# Altium schematic symbol library PERCRO_schematic.SchLib: 169 symbols (part 2 of 2)
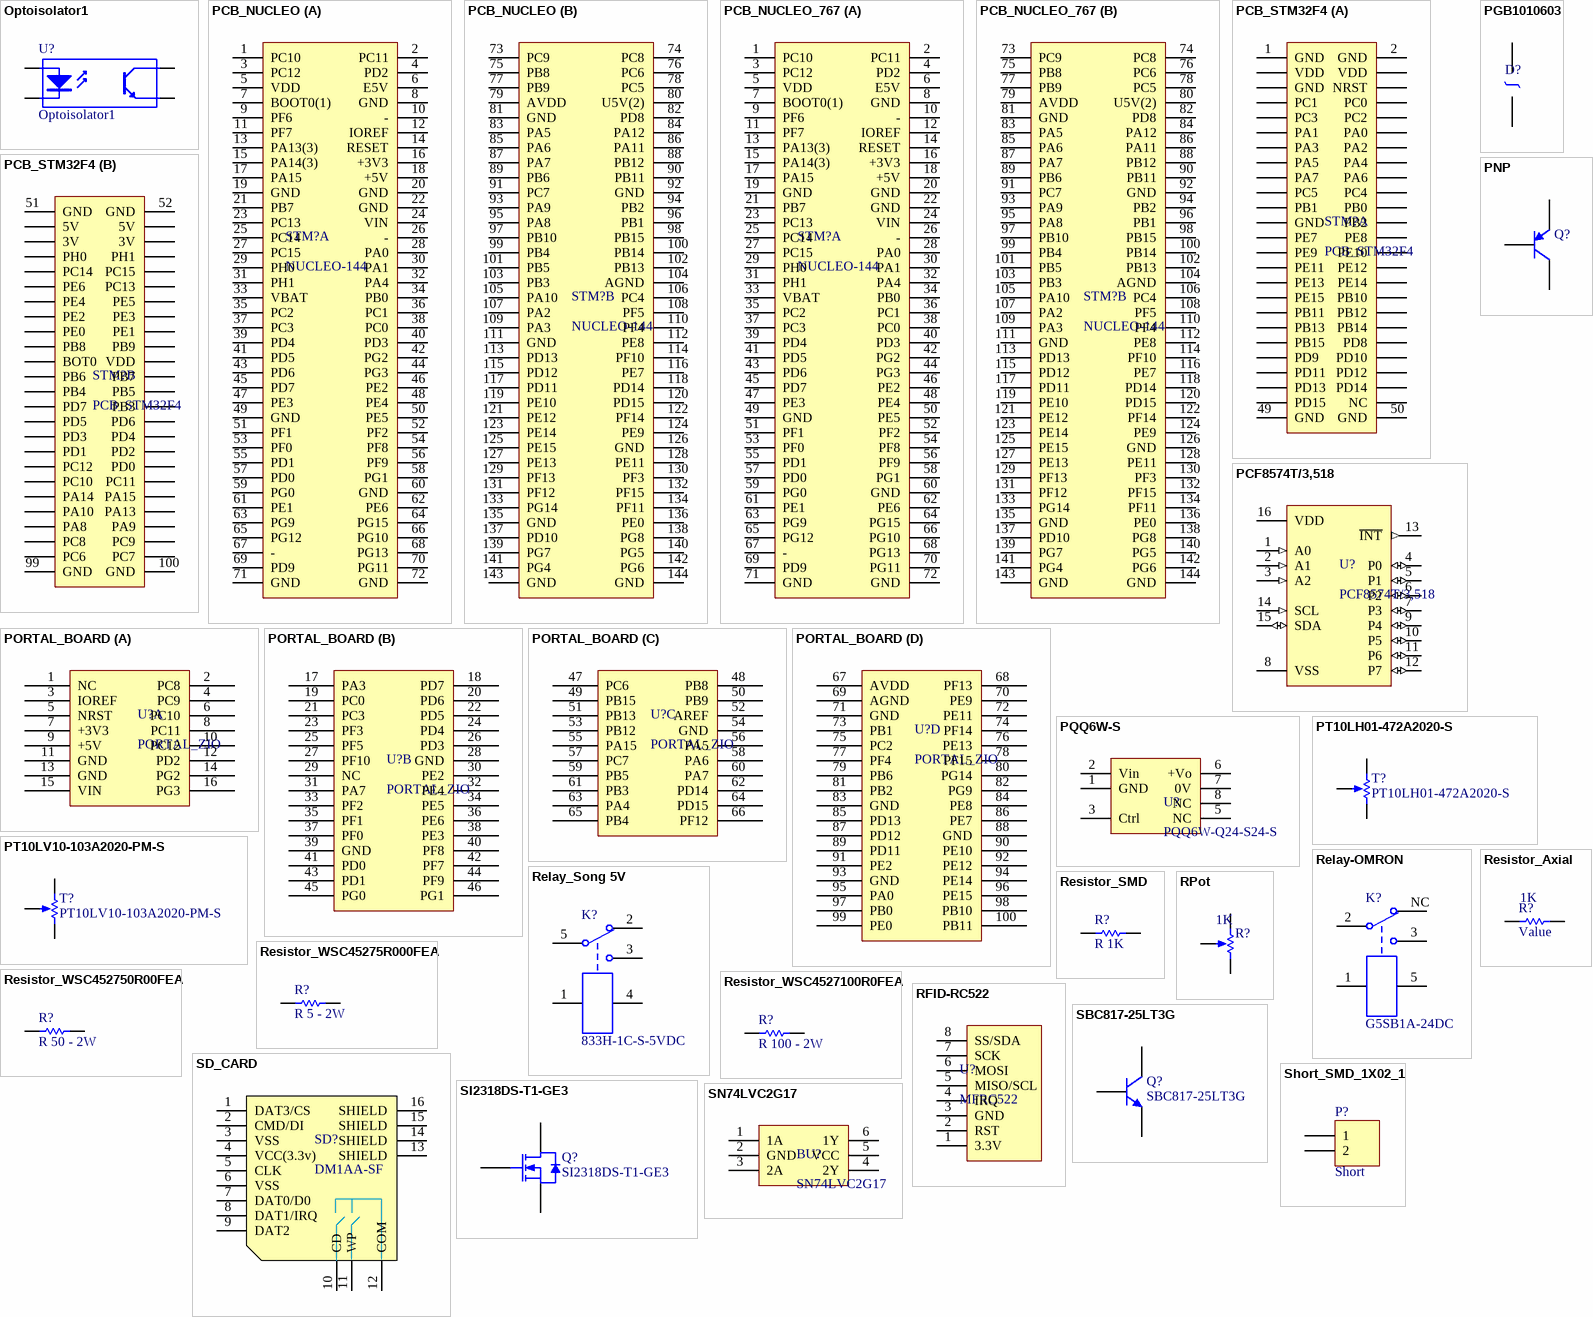
[diagram p6: symbols Optoisolator1 to SN74LVC2G17]

## SD_CARD
designator SD?, comment DM1AA-SF
SD Memory Card Connector; Manufacturer: Hirose; Manufacturer Code: DM1AA-SF-PEJ(72); HelpURL: C:\Varios\PERCRO_DATASHEET\DM1_SD_CARD.pdf
footprint SD_CARD (SMD_SD_CARD)
pins: 1 DAT3/CS, 2 CMD/DI, 3 VSS, 4 VCC(3.3v), 5 CLK, 6 VSS, 7 DAT0/D0, 8 DAT1/IRQ, 9 DAT2, 10 CD, 11 WP, 12 COM, 13 SHIELD, 14 SHIELD, 15 SHIELD, 16 SHIELD

## Short_SMD_1X02_1
designator P?, comment Short
Header, 2-Pin
signal-integrity model Connector
footprint SHORT_SMD_1x2_2 (Header SMD, 2-Pin, 2mm Pitch)
pins: 1, 2

## SI2318DS-T1-GE3
designator Q?
N-Channel MOSFET 40V - 3A; Manufacturer: Vishay Semiconductors; Value: 40V - 3A; HelpURL: C:\Varios\PERCRO_DATASHEET\SI2318DS-T1-GE3.pdf; Manufacturer Code: SI2318DS-T1-GE3
footprint SOT-23
pins: 1 G, 2 S, 3 D

## SN74LVC2G17
designator BU?
Dual Schmitt-Trigger Buffer; Manufacturer: Texas Instruments; Manufacturer Code: SN74LVC2G17DCK; HelpURL: C:\Varios\PERCRO_DATASHEET\SN74LVC2G17.pdf
footprint DCK (Small-Outline Package (SOP))
pins: 1 1A, 2 GND, 3 2A, 4 2Y, 5 VCC, 6 1Y

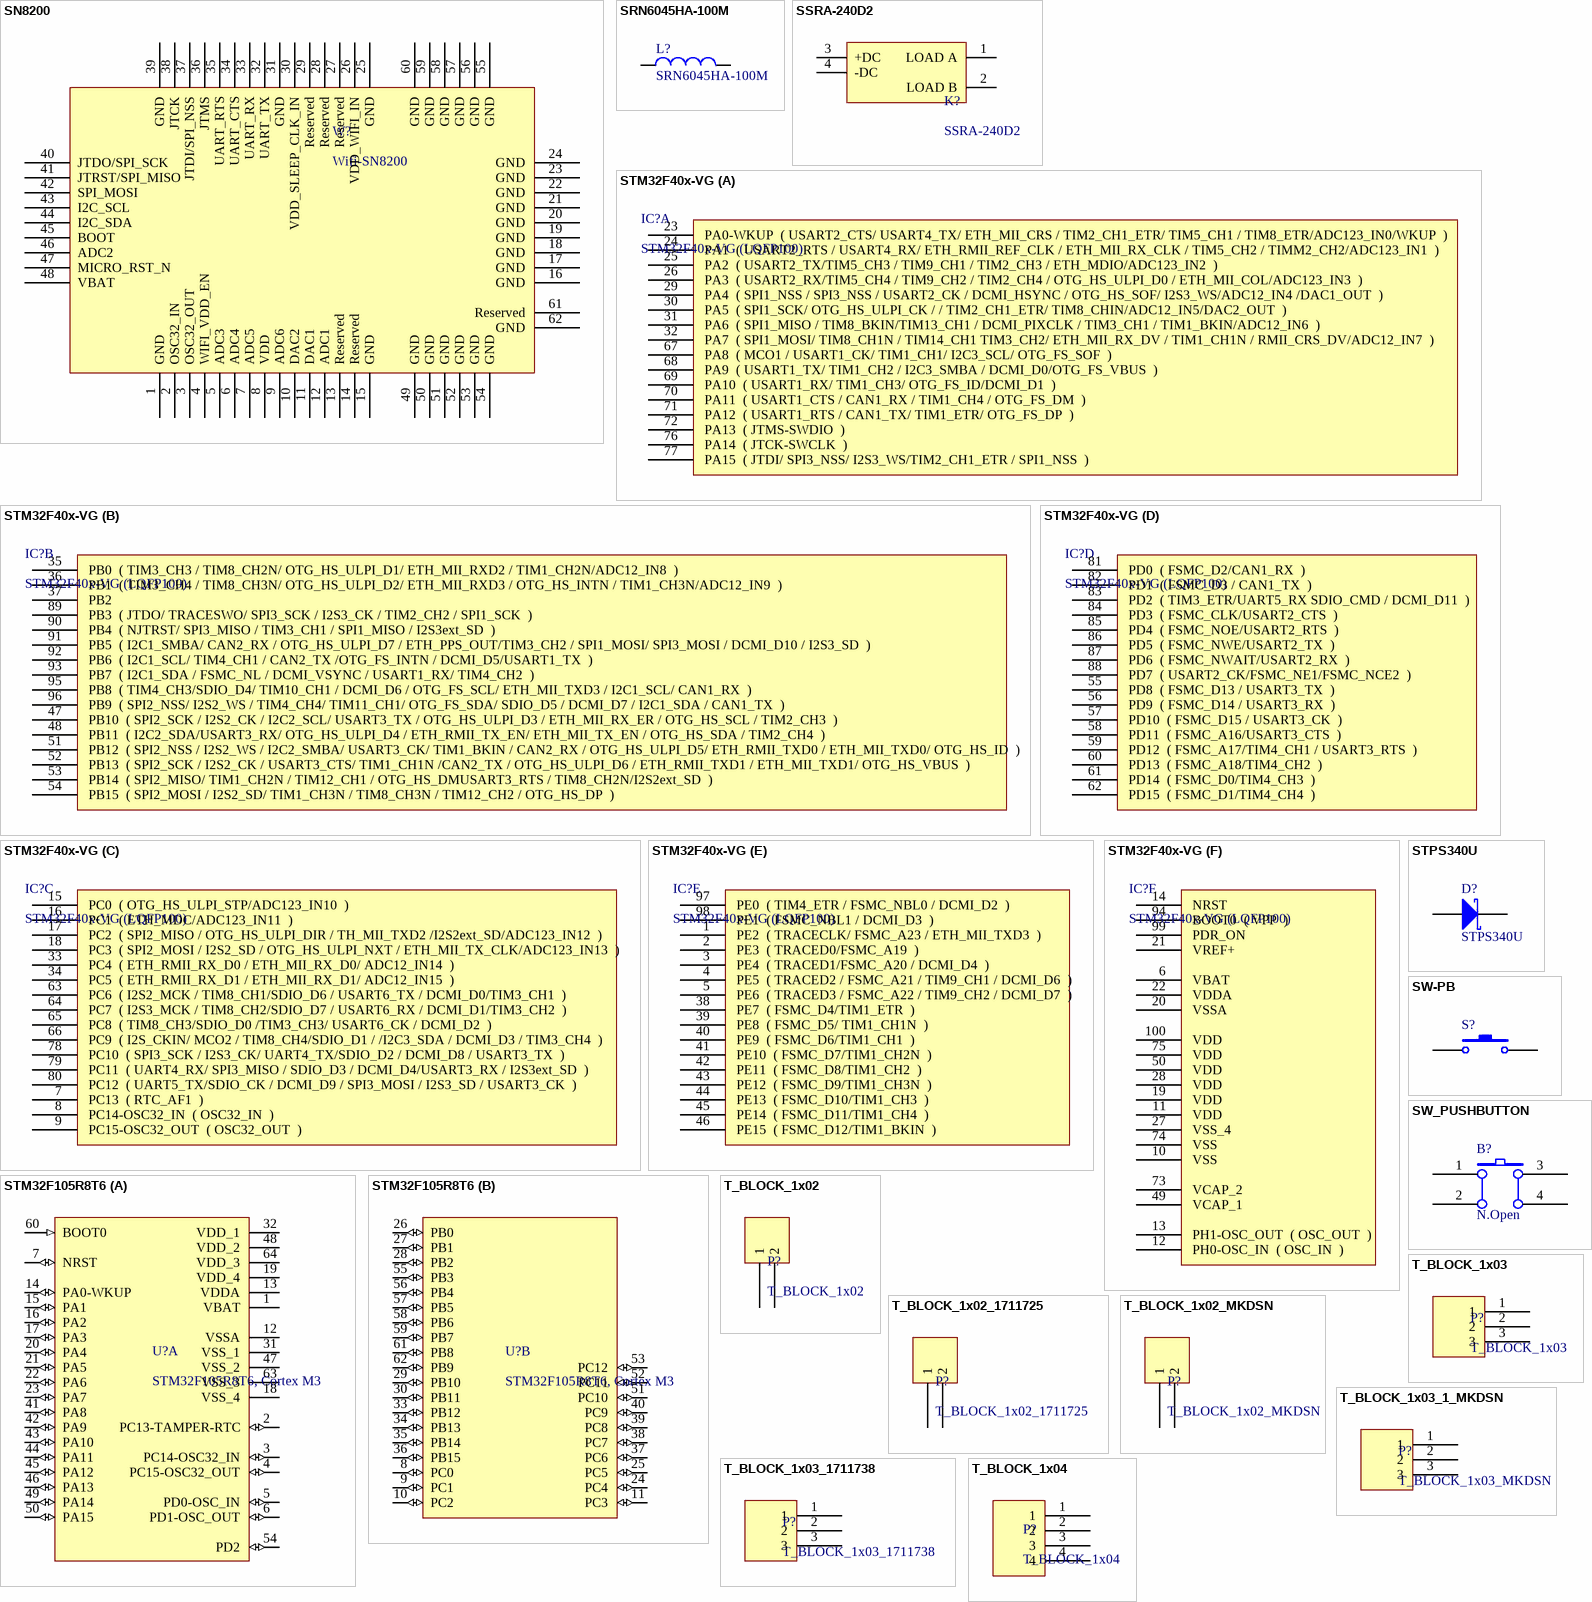
[diagram p4: symbols SN8200 to T_BLOCK_1x04]

## SN8200
designator W?, comment Wifi-SN8200
Wifi module SN8200; Manufacturer: MURATA; HelpURL: C:\Varios\PERCRO_DATASHEET\SN8200.pdf; Manufacturer Code: SN8200
footprint SN8200
pins: 1 GND, 2 OSC32_IN, 3 OSC32_OUT, 4 WIFI_VDD_EN, 5 ADC3, 6 ADC4, 7 ADC5, 8 VDD, 9 ADC6, 10 DAC2, 11 DAC1, 12 ADC1, 13 Reserved, 14 Reserved, 15 GND, 16 GND, 17 GND, 18 GND, 19 GND, 20 GND, 21 GND, 22 GND, 23 GND, 24 GND, 25 GND, 26 VDD_WIFI_IN, 27 Reserved, 28 Reserved, 29 Reserved, 30 VDD_SLEEP_CLK_IN, 31 GND, 32 UART_TX, 33 UART_RX, 34 UART_CTS, 35 UART_RTS, 36 JTMS, 37 JTDI/SPI_NSS, 38 JTCK, 39 GND, 40 JTDO/SPI_SCK , 41 JTRST/SPI_MISO , 42 SPI_MOSI , 43 I2C_SCL, 44 I2C_SDA, 45 BOOT, 46 ADC2, 47 MICRO_RST_N , 48 VBAT, 49 GND, 50 GND, 51 GND, 52 GND, 53 GND, 54 GND, 55 GND, 56 GND, 57 GND, 58 GND, 59 GND, 60 GND, 61 Reserved, 62 GND

## SRN6045HA-100M
designator L?
Inductor 10 uH 20 % 2.6 A; Manufacturer: Bourns; Value: 10 uH; Manufacturer Code: SRN6045HA-100M; HelpURL: C:\Varios\PERCRO_DATASHEET\SRN6045HA-100M.pdf
footprint INDPM6060X470N
pins: 1, 2

## SSRA-240D2
designator K?
State Solid Relay to 5V input and 24-280 VAC output; Manufacturer: TE Connectivity / P&B; Manufacturer Code: SSRA-240D2; Value: 5V; HelpURL: C:\Varios\PERCRO_DATASHEET\SSRA-240D2.pdf
footprint RELAY_SSRA
pins: 1 LOAD A, 2 LOAD B, 3 +DC, 4 -DC

## STM32F40x-VG
designator IC?, comment STM32F40x-VG (LQFP100)
Manufacturer: STM; Manufacturer Code: STM-Discovery; HelpURL: C:\AltiumDoc\Datasheets\STM32F407VGT6.pdf
footprint LQFP100 (LQFP100 100-Leads, Body 14.00x14.00mm, Pitch 0.50mm, IPC Medium Density)
part A pins: 23  PA0-WKUP  ( USART2_CTS/ USART4_TX/ ETH_MII_CRS / TIM2_CH1_ETR/ TIM5_CH1 / TIM8_ETR/ADC123_IN0/WKUP  ), 24  PA1  ( USART2_RTS / USART4_RX/ ETH_RMII_REF_CLK / ETH_MII_RX_CLK / TIM5_CH2 / TIMM2_CH2/ADC123_IN1  ), 25  PA2  ( USART2_TX/TIM5_CH3 / TIM9_CH1 / TIM2_CH3 / ETH_MDIO/ADC123_IN2  ), 26  PA3  ( USART2_RX/TIM5_CH4 / TIM9_CH2 / TIM2_CH4 / OTG_HS_ULPI_D0 / ETH_MII_COL/ADC123_IN3  ), 29  PA4  ( SPI1_NSS / SPI3_NSS / USART2_CK / DCMI_HSYNC / OTG_HS_SOF/ I2S3_WS/ADC12_IN4 /DAC1_OUT  ), 30  PA5  ( SPI1_SCK/ OTG_HS_ULPI_CK / / TIM2_CH1_ETR/ TIM8_CHIN/ADC12_IN5/DAC2_OUT  ), 31  PA6  ( SPI1_MISO / TIM8_BKIN/TIM13_CH1 / DCMI_PIXCLK / TIM3_CH1 / TIM1_BKIN/ADC12_IN6  ), 32  PA7  ( SPI1_MOSI/ TIM8_CH1N / TIM14_CH1 TIM3_CH2/ ETH_MII_RX_DV / TIM1_CH1N / RMII_CRS_DV/ADC12_IN7  ), 67  PA8  ( MCO1 / USART1_CK/ TIM1_CH1/ I2C3_SCL/ OTG_FS_SOF  ), 68  PA9  ( USART1_TX/ TIM1_CH2 / I2C3_SMBA / DCMI_D0/OTG_FS_VBUS  ), 69  PA10  ( USART1_RX/ TIM1_CH3/ OTG_FS_ID/DCMI_D1  ), 70  PA11  ( USART1_CTS / CAN1_RX / TIM1_CH4 / OTG_FS_DM  ), 71  PA12  ( USART1_RTS / CAN1_TX/ TIM1_ETR/ OTG_FS_DP  ), 72  PA13  ( JTMS-SWDIO  ), 76  PA14  ( JTCK-SWCLK  ), 77  PA15  ( JTDI/ SPI3_NSS/ I2S3_WS/TIM2_CH1_ETR / SPI1_NSS  )
part B pins: 35  PB0  ( TIM3_CH3 / TIM8_CH2N/ OTG_HS_ULPI_D1/ ETH_MII_RXD2 / TIM1_CH2N/ADC12_IN8  ), 36  PB1  ( TIM3_CH4 / TIM8_CH3N/ OTG_HS_ULPI_D2/ ETH_MII_RXD3 / OTG_HS_INTN / TIM1_CH3N/ADC12_IN9  ), 37  PB2  , 47  PB10  ( SPI2_SCK / I2S2_CK / I2C2_SCL/ USART3_TX / OTG_HS_ULPI_D3 / ETH_MII_RX_ER / OTG_HS_SCL / TIM2_CH3  ), 48  PB11  ( I2C2_SDA/USART3_RX/ OTG_HS_ULPI_D4 / ETH_RMII_TX_EN/ ETH_MII_TX_EN / OTG_HS_SDA / TIM2_CH4  ), 51  PB12  ( SPI2_NSS / I2S2_WS / I2C2_SMBA/ USART3_CK/ TIM1_BKIN / CAN2_RX / OTG_HS_ULPI_D5/ ETH_RMII_TXD0 / ETH_MII_TXD0/ OTG_HS_ID  ), 52  PB13  ( SPI2_SCK / I2S2_CK / USART3_CTS/ TIM1_CH1N /CAN2_TX / OTG_HS_ULPI_D6 / ETH_RMII_TXD1 / ETH_MII_TXD1/ OTG_HS_VBUS  ), 53  PB14  ( SPI2_MISO/ TIM1_CH2N / TIM12_CH1 / OTG_HS_DMUSART3_RTS / TIM8_CH2N/I2S2ext_SD  ), 54  PB15  ( SPI2_MOSI / I2S2_SD/ TIM1_CH3N / TIM8_CH3N / TIM12_CH2 / OTG_HS_DP  ), 89  PB3  ( JTDO/ TRACESWO/ SPI3_SCK / I2S3_CK / TIM2_CH2 / SPI1_SCK  ), 90  PB4  ( NJTRST/ SPI3_MISO / TIM3_CH1 / SPI1_MISO / I2S3ext_SD  ), 91  PB5  ( I2C1_SMBA/ CAN2_RX / OTG_HS_ULPI_D7 / ETH_PPS_OUT/TIM3_CH2 / SPI1_MOSI/ SPI3_MOSI / DCMI_D10 / I2S3_SD  ), 92  PB6  ( I2C1_SCL/ TIM4_CH1 / CAN2_TX /OTG_FS_INTN / DCMI_D5/USART1_TX  ), 93  PB7  ( I2C1_SDA / FSMC_NL / DCMI_VSYNC / USART1_RX/ TIM4_CH2  ), 95  PB8  ( TIM4_CH3/SDIO_D4/ TIM10_CH1 / DCMI_D6 / OTG_FS_SCL/ ETH_MII_TXD3 / I2C1_SCL/ CAN1_RX  ), 96  PB9  ( SPI2_NSS/ I2S2_WS / TIM4_CH4/ TIM11_CH1/ OTG_FS_SDA/ SDIO_D5 / DCMI_D7 / I2C1_SDA / CAN1_TX  )
part C pins: 7  PC13  ( RTC_AF1  ), 8  PC14-OSC32_IN  ( OSC32_IN  ), 9  PC15-OSC32_OUT  ( OSC32_OUT  ), 15  PC0  ( OTG_HS_ULPI_STP/ADC123_IN10  ), 16  PC1  ( ETH_MDC/ADC123_IN11  ), 17  PC2  ( SPI2_MISO / OTG_HS_ULPI_DIR / TH_MII_TXD2 /I2S2ext_SD/ADC123_IN12  ), 18  PC3  ( SPI2_MOSI / I2S2_SD / OTG_HS_ULPI_NXT / ETH_MII_TX_CLK/ADC123_IN13  ), 33  PC4  ( ETH_RMII_RX_D0 / ETH_MII_RX_D0/ ADC12_IN14  ), 34  PC5  ( ETH_RMII_RX_D1 / ETH_MII_RX_D1/ ADC12_IN15  ), 63  PC6  ( I2S2_MCK / TIM8_CH1/SDIO_D6 / USART6_TX / DCMI_D0/TIM3_CH1  ), 64  PC7  ( I2S3_MCK / TIM8_CH2/SDIO_D7 / USART6_RX / DCMI_D1/TIM3_CH2  ), 65  PC8  ( TIM8_CH3/SDIO_D0 /TIM3_CH3/ USART6_CK / DCMI_D2  ), 66  PC9  ( I2S_CKIN/ MCO2 / TIM8_CH4/SDIO_D1 / /I2C3_SDA / DCMI_D3 / TIM3_CH4  ), 78  PC10  ( SPI3_SCK / I2S3_CK/ UART4_TX/SDIO_D2 / DCMI_D8 / USART3_TX  ), 79  PC11  ( UART4_RX/ SPI3_MISO / SDIO_D3 / DCMI_D4/USART3_RX / I2S3ext_SD  ), 80  PC12  ( UART5_TX/SDIO_CK / DCMI_D9 / SPI3_MOSI / I2S3_SD / USART3_CK  )
part D pins: 55  PD8  ( FSMC_D13 / USART3_TX  ), 56  PD9  ( FSMC_D14 / USART3_RX  ), 57  PD10  ( FSMC_D15 / USART3_CK  ), 58  PD11  ( FSMC_A16/USART3_CTS  ), 59  PD12  ( FSMC_A17/TIM4_CH1 / USART3_RTS  ), 60  PD13  ( FSMC_A18/TIM4_CH2  ), 61  PD14  ( FSMC_D0/TIM4_CH3  ), 62  PD15  ( FSMC_D1/TIM4_CH4  ), 81  PD0  ( FSMC_D2/CAN1_RX  ), 82  PD1  ( FSMC_D3 / CAN1_TX  ), 83  PD2  ( TIM3_ETR/UART5_RX SDIO_CMD / DCMI_D11  ), 84  PD3  ( FSMC_CLK/USART2_CTS  ), 85  PD4  ( FSMC_NOE/USART2_RTS  ), 86  PD5  ( FSMC_NWE/USART2_TX  ), 87  PD6  ( FSMC_NWAIT/USART2_RX  ), 88  PD7  ( USART2_CK/FSMC_NE1/FSMC_NCE2  )
part E pins: 1  PE2  ( TRACECLK/ FSMC_A23 / ETH_MII_TXD3  ), 2  PE3  ( TRACED0/FSMC_A19  ), 3  PE4  ( TRACED1/FSMC_A20 / DCMI_D4  ), 4  PE5  ( TRACED2 / FSMC_A21 / TIM9_CH1 / DCMI_D6  ), 5  PE6  ( TRACED3 / FSMC_A22 / TIM9_CH2 / DCMI_D7  ), 38  PE7  ( FSMC_D4/TIM1_ETR  ), 39  PE8  ( FSMC_D5/ TIM1_CH1N  ), 40  PE9  ( FSMC_D6/TIM1_CH1  ), 41  PE10  ( FSMC_D7/TIM1_CH2N  ), 42  PE11  ( FSMC_D8/TIM1_CH2  ), 43  PE12  ( FSMC_D9/TIM1_CH3N  ), 44  PE13  ( FSMC_D10/TIM1_CH3  ), 45  PE14  ( FSMC_D11/TIM1_CH4  ), 46  PE15  ( FSMC_D12/TIM1_BKIN  ), 97  PE0  ( TIM4_ETR / FSMC_NBL0 / DCMI_D2  ), 98  PE1  ( FSMC_NBL1 / DCMI_D3  )
part F pins: 6  VBAT  , 10  VSS  , 11  VDD  , 12  PH0-OSC_IN  ( OSC_IN  ), 13  PH1-OSC_OUT  ( OSC_OUT  ), 14  NRST  , 19  VDD  , 20  VSSA  , 21  VREF+  , 22  VDDA  , 27  VSS_4  , 28  VDD  , 49  VCAP_1  , 50  VDD  , 73  VCAP_2  , 74  VSS  , 75  VDD  , 94  BOOT0  ( VPP  ), 99  PDR_ON  , 100  VDD  

## STM32F105R8T6
designator U?, comment STM32F105R8T6, Cortex M3
ARM based 32-bit MCU with 64KB Flash, LQFP 64; Manufacturer: STMicroelectronics; Manufacturer Code: STM32F105R8T6; HelpURL: C:\Varios\PERCRO_DATASHEET\STM32F105\STM32F105R8T6.PDF
footprint LQFP64 (10mm x 10 mm, 0.5 pitch)
part A pins: 1 VBAT (power), 2 PC13-TAMPER-RTC (io), 3 PC14-OSC32_IN (io), 4 PC15-OSC32_OUT (io), 5 PD0-OSC_IN (io), 6 PD1-OSC_OUT (io), 7 NRST (io), 12 VSSA (power), 13 VDDA (power), 14 PA0-WKUP (io), 15 PA1 (io), 16 PA2 (io), 17 PA3 (io), 18 VSS_4 (power), 19 VDD_4 (power), 20 PA4 (io), 21 PA5 (io), 22 PA6 (io), 23 PA7 (io), 31 VSS_1 (power), 32 VDD_1 (power), 41 PA8 (io), 42 PA9 (io), 43 PA10 (io), 44 PA11 (io), 45 PA12 (io), 46 PA13 (io), 47 VSS_2 (power), 48 VDD_2 (power), 49 PA14 (io), 50 PA15 (io), 54 PD2 (io), 60 BOOT0 (in), 63 VSS_3 (power), 64 VDD_3 (power)
part B pins: 8 PC0 (io), 9 PC1 (io), 10 PC2 (io), 11 PC3 (io), 24 PC4 (io), 25 PC5 (io), 26 PB0 (io), 27 PB1 (io), 28 PB2 (io), 29 PB10 (io), 30 PB11 (io), 33 PB12 (io), 34 PB13 (io), 35 PB14 (io), 36 PB15 (io), 37 PC6 (io), 38 PC7 (io), 39 PC8 (io), 40 PC9 (io), 51 PC10 (io), 52 PC11 (io), 53 PC12 (io), 55 PB3 (io), 56 PB4 (io), 57 PB5 (io), 58 PB6 (io), 59 PB7 (io), 61 PB8 (io), 62 PB9 (io)

## STPS340U
designator D?
Schottky Rectifier; Manufacturer: STMicroelectronics; RS Code: 226-4925; Manufacturer Code: STPS340U
footprint DO-214AA
pins: 1 A, 2 K

## SW-PB
designator S?
Switch; Published: 24-Mar-1999; LatestRevisionDate: 17-Jul-2002; LatestRevisionNote: Re-released for DXP Platform.; PackageReference: SPST-2; Publisher: Altium Limited; PackageDescription: Switch; 2 Leads
footprint SPST-2 (Footprint not found)
pins: 1, 2

## SW_PUSHBUTTON
designator B?, comment N.Open
Push-Button Normally Open; Manufacturer Code: FSM4JSMA; Manufacturer: TE Connectivity; HelpURL: C:\Varios\PERCRO_DATASHEET\FSM4JSMA.pdf
footprint SW_SMD (FSM4JSMA)
pins: 1, 2, 3, 4

## T_BLOCK_1x02
designator P?
TERMINAL_BLOCK_1x02
footprint T_BLOCK_1x02
pins: 1, 2

## T_BLOCK_1x02_1711725
designator P?
TERMINAL_BLOCK_1x02_MKDSN; Manufacturer: Phoenix Contact; Manufacturer Code: 1711725; HelpURL: C:\Varios\PERCRO_DATASHEET\1711725.pdf
footprint 1711725 (PCB terminal 2 pos)
pins: 1, 2

## T_BLOCK_1x02_MKDSN
designator P?
TERMINAL_BLOCK_1x02_MKDSN; Manufacturer Code: 1729128; Manufacturer: Phoenix Contact; HelpURL: C:\Varios\PERCRO_DATASHEET\MKDSN.pdf
footprint T_BLOCK_1x02_MKDSN
pins: 1, 2

## T_BLOCK_1x03
designator P?
TERMINAL_BLOCK_1x03
footprint T_BLOCK_1x03 (Terminal block 1x03)
pins: 1, 2, 3

## T_BLOCK_1x03_1_MKDSN
designator P?, comment T_BLOCK_1x03_MKDSN
TERMINAL_BLOCK_1x03_MKDSN; Manufacturer Code: 1729131; Manufacturer: Phoenix Contact; HelpURL: C:\Varios\PERCRO_DATASHEET\MKDSN.pdf
footprint T_BLOCK_1x03_MKDSN (Terminal block 1x03)
pins: 1, 2, 3

## T_BLOCK_1x03_1711738
designator P?
TERMINAL_BLOCK_1x03_1711738; Manufacturer: Phoenix Contact; HelpURL: C:\Varios\PERCRO_DATASHEET\1711738.pdf; Manufacturer Code: 1711738
footprint 1711738 (PCB terminal 3 pos)
pins: 1, 2, 3

## T_BLOCK_1x04
designator P?
TERMINAL_BLOCK_1x04
footprint T_BLOCK_1x04 (Terminal block 1x4)
pins: 1, 2, 3, 4

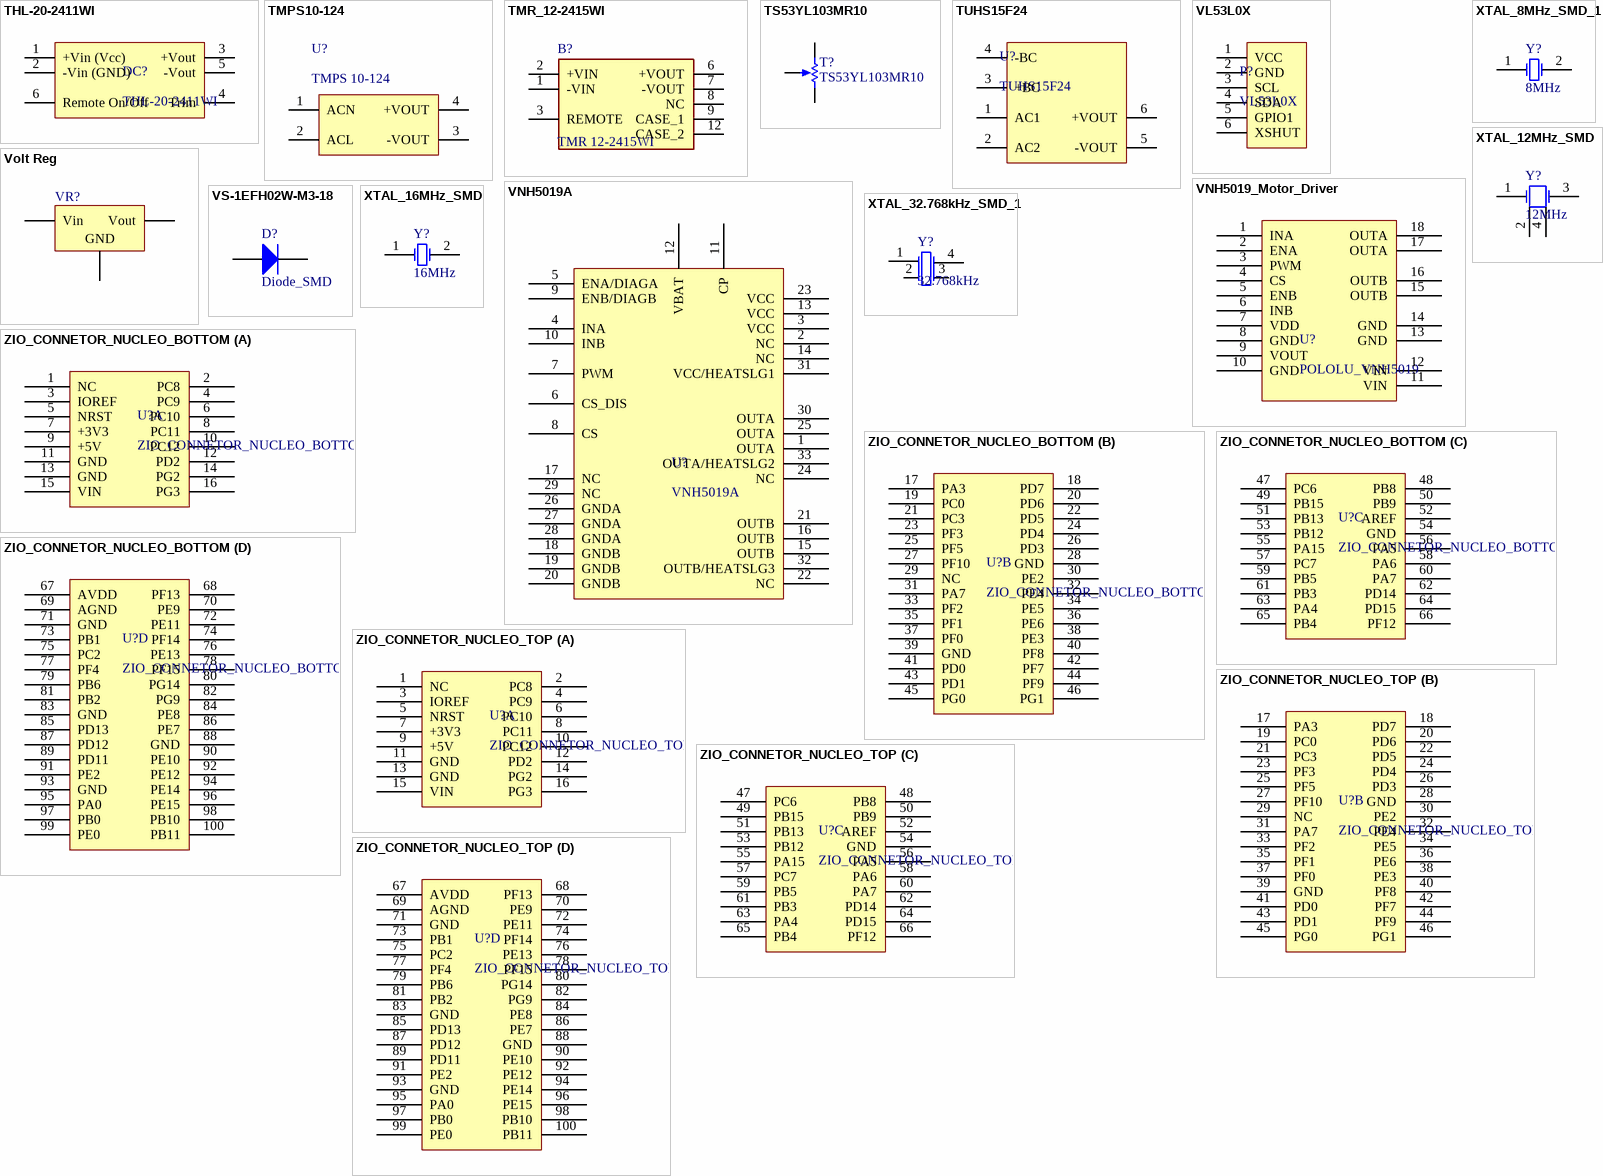
[diagram p5: symbols THL-20-2411WI to ZIO_CONNETOR_NUCLEO_TOP]

## THL-20-2411WI
designator DC?
DC/DC Converter 5V; Manufacturer: TRACOPOWER; Manufacturer Code: THL-20-2411WI; HelpURL: C:\Varios\PERCRO_DATASHEET\THL-20-2411WI.PDF; Value: 5v
footprint THL-20-2411WI (DC/DC Converter Vout 5v)
pins: 1 +Vin (Vcc), 2 -Vin (GND), 3 +Vout, 4 Trim, 5 -Vout, 6 Remote On/Off

## TMPS10-124
designator U?, comment TMPS 10-124
CA to CD 10W 24V 0.41A; Manufacturer: TRACO Power; HelpURL: C:\Varios\PERCRO_DATASHEET\TMPS 10-124.pdf; Manufacturer Code: TMPS 10-124; Value: 24V
footprint TMPS10-124 (AC to DC converter)
pins: 1 ACN, 2 ACL, 3 -VOUT, 4 +VOUT

## TMR_12-2415WI
designator B?, comment TMR 12-2415WI
12 Watt DC/DC converter, industrial, 4:1 input, regulated, 1600 VDC I/O-isolation, encapsulated, SIP-8 metal case; Manufacturer: Traco Power; Value: 24V-12W; HelpURL: C:\Varios\PERCRO_DATASHEET\TMR 12-2415WI.pdf; Manufacturer Code: TMR 12-2415WI
footprint TMR122415WI
pins: 1 -VIN, 2 +VIN, 3 REMOTE, 6 +VOUT, 7 -VOUT, 8 NC, 9 CASE_1, 12 CASE_2

## TS53YL103MR10
designator T?
Trimmer 10K Ohm; Manufacturer: Vishay; HelpURL: C:\Varios\PERCRO_DATASHEET\TS53YL103MR10.pdf; Manufacturer Code: TS53YL103MR10; Value: 10K
footprint TS53YL (Trimmer footprint)
pins: 1 TOP, 2 TAP, 3 BOT
1 alternate drawing of the same symbol

## TUHS15F24
designator U?
CA to CD 15.12W 24V 0.63A; Manufacturer Code: Cosel; HelpURL: C:\Varios\PERCRO_DATASHEET\TUHS15.pdf; Manufacturer: TUHS15F24; Value: 24V
footprint TUHS25 (AC to DC converter)
pins: 1 AC1, 2 AC2, 3 +BC, 4 -BC, 5 -VOUT, 6 +VOUT

## VL53L0X
designator P?
Connector_VL53L0X_3.3V; Manufacturer: STMicroelectronics; Value: 3.3V; HelpURL: C:\Varios\PERCRO_DATASHEET\vl53l0x.pdf; Manufacturer Code: VL53L0X
footprint VL53L0X
pins: 1 VCC, 2 GND, 3 SCL, 4 SDA, 5 GPIO1, 6 XSHUT

## VNH5019_Motor_Driver
designator U?, comment POLOLU_VNH5019
MOTOR_DRIVER; Manufacturer: POLOLU; Manufacturer Code: VNH5019; HelpURL: C:\Varios\PERCRO_DATASHEET\VNH5019A.pdf
footprint Pololu_VNH5019
pins: 1 INA, 2 ENA, 3 PWM, 4 CS, 5 ENB, 6 INB, 7 VDD, 8 GND, 9 VOUT, 10 GND, 11 VIN, 12 VIN, 13 GND, 14 GND, 15 OUTB, 16 OUTB, 17 OUTA, 18 OUTA

## VNH5019A
designator U?
H-BRIDGE; Manufacturer: STMicroelectronics; Manufacturer Code: VNH5019A; HelpURL: C:\AltiumDoc\Datasheets\VNH5019A.pdf
footprint MULTIPOWERSO-30 (H-Bridge)
pins: 1 OUTA, 2 NC, 3 VCC, 4 INA, 5 ENA/DIAGA, 6 CS_DIS, 7 PWM, 8 CS, 9 ENB/DIAGB, 10 INB, 11 CP, 12 VBAT, 13 VCC, 14 NC, 15 OUTB, 16 OUTB, 17 NC, 18 GNDB, 19 GNDB, 20 GNDB, 21 OUTB, 22 NC, 23 VCC, 24 NC, 25 OUTA, 26 GNDA, 27 GNDA, 28 GNDA, 29 NC, 30 OUTA, 31 VCC/HEATSLG1, 32 OUTB/HEATSLG3, 33 OUTA/HEATSLG2

## Volt Reg
designator VR?
Voltage Regulator; Published: 24-Mar-1999; LatestRevisionDate: 29-May-2009; LatestRevisionNote: IPC-7351 Footprint Added.; PackageReference: D2PAK; Publisher: Altium Limited; PackageDescription: 3-Pin Transistor Outline Package 2.54 mm Pitch, 15.1 mm Lead Span
footprint D2PAK_N (Footprint not found)
footprint D2PAK_L (Footprint not found)
footprint D2PAK_M (Footprint not found)
pins: 1 Vin, 2 GND, 3 Vout

## VS-1EFH02W-M3-18
designator D?, comment Diode_SMD
Diode SMD 200v,1A; Manufacturer: VISHAY; Manufacturer Code: VS-1EFH02W-M3-18; HelpURL: C:\Varios\PERCRO_DATASHEET\VS-1EFH02W-M3-18.pdf
footprint SMF (Diode_SMD)
pins: 1 A, 2 K

## XTAL_8MHz_SMD_1
designator Y?, comment 8MHz
Crystal Oscillator 8MHz; Manufacturer Code: QCS8.00000F18B23R; Manufacturer: QANTEK; HelpURL: C:\Varios\PERCRO_DATASHEET\QCS8.00000F18B23R.PDF
simulation model XTAL (Spice Subcircuit)
footprint HC-49_US_SMD - duplicate - duplicate (XTAL SMD)
pins: 1 OSC1, 2 OSC2

## XTAL_12MHz_SMD
designator Y?, comment 12MHz
Crystal Oscillator 12MHz SMD 4 pins; Manufacturer Code: E5SB12.0000F18D11; Manufacturer: Hosonic; HelpURL: C:\Varios\PERCRO_DATASHEET\E5SB12.0000F18D11.pdf
footprint HCX-5SB
simulation model XTAL (Spice Subcircuit)
pins: 1 OSC1, 2 OSC2, 3 OSC2, 4 OSC4

## XTAL_16MHz_SMD
designator Y?, comment 16MHz
Crystal Oscillator 16MHz; Manufacturer Code: LFXTAL027946; Manufacturer: IQD; HelpURL: C:\Varios\PERCRO_DATASHEET\IQD.PDF
footprint HC-49SMD (XTAL SMD)
pins: 1 OSC1, 2 OSC2

## XTAL_32.768kHz_SMD_1
designator Y?, comment 32.768kHz
Crystal Oscillator 32.768kHz; Manufacturer Code: LFXTAL016178; Manufacturer: IQD; HelpURL: C:\Varios\PERCRO_DATASHEET\LFXTAL016178.PDF
simulation model XTAL (Spice Subcircuit)
footprint 85SMX (XTAL SMD)
pins: 1 OSC1, 2 OSC2, 3 OSC3, 4 OSC2

## ZIO_CONNETOR_NUCLEO_BOTTOM
designator U?
Schematic to use a PCB under the NUCLEO
footprint ZIO_CONNECTOR_M7_BOTTOM (Footprint to use a PCB under the NUCLEO)
part A pins: 1 NC, 2 PC8, 3 IOREF, 4 PC9, 5 NRST, 6 PC10, 7 +3V3, 8 PC11, 9 +5V, 10 PC12, 11 GND, 12 PD2, 13 GND, 14 PG2, 15 VIN, 16 PG3
part B pins: 17 PA3, 18 PD7, 19 PC0, 20 PD6, 21 PC3, 22 PD5, 23 PF3, 24 PD4, 25 PF5, 26 PD3, 27 PF10, 28 GND, 29 NC, 30 PE2, 31 PA7, 32 PE4, 33 PF2, 34 PE5, 35 PF1, 36 PE6, 37 PF0, 38 PE3, 39 GND, 40 PF8, 41 PD0, 42 PF7, 43 PD1, 44 PF9, 45 PG0, 46 PG1
part C pins: 47 PC6, 48 PB8, 49 PB15, 50 PB9, 51 PB13, 52 AREF, 53 PB12, 54 GND, 55 PA15, 56 PA5, 57 PC7, 58 PA6, 59 PB5, 60 PA7, 61 PB3, 62 PD14, 63 PA4, 64 PD15, 65 PB4, 66 PF12
part D pins: 67 AVDD, 68 PF13, 69 AGND, 70 PE9, 71 GND, 72 PE11, 73 PB1, 74 PF14, 75 PC2, 76 PE13, 77 PF4, 78 PF15, 79 PB6, 80 PG14, 81 PB2, 82 PG9, 83 GND, 84 PE8, 85 PD13, 86 PE7, 87 PD12, 88 GND, 89 PD11, 90 PE10, 91 PE2, 92 PE12, 93 GND, 94 PE14, 95 PA0, 96 PE15, 97 PB0, 98 PB10, 99 PE0, 100 PB11

## ZIO_CONNETOR_NUCLEO_TOP
designator U?
Schematic to use a PCB over the NUCLEO
footprint ZIO_CONNECTOR_M7_TOP (Footprint to use a PCB over the NUCLEO)
part A pins: 1 NC, 2 PC8, 3 IOREF, 4 PC9, 5 NRST, 6 PC10, 7 +3V3, 8 PC11, 9 +5V, 10 PC12, 11 GND, 12 PD2, 13 GND, 14 PG2, 15 VIN, 16 PG3
part B pins: 17 PA3, 18 PD7, 19 PC0, 20 PD6, 21 PC3, 22 PD5, 23 PF3, 24 PD4, 25 PF5, 26 PD3, 27 PF10, 28 GND, 29 NC, 30 PE2, 31 PA7, 32 PE4, 33 PF2, 34 PE5, 35 PF1, 36 PE6, 37 PF0, 38 PE3, 39 GND, 40 PF8, 41 PD0, 42 PF7, 43 PD1, 44 PF9, 45 PG0, 46 PG1
part C pins: 47 PC6, 48 PB8, 49 PB15, 50 PB9, 51 PB13, 52 AREF, 53 PB12, 54 GND, 55 PA15, 56 PA5, 57 PC7, 58 PA6, 59 PB5, 60 PA7, 61 PB3, 62 PD14, 63 PA4, 64 PD15, 65 PB4, 66 PF12
part D pins: 67 AVDD, 68 PF13, 69 AGND, 70 PE9, 71 GND, 72 PE11, 73 PB1, 74 PF14, 75 PC2, 76 PE13, 77 PF4, 78 PF15, 79 PB6, 80 PG14, 81 PB2, 82 PG9, 83 GND, 84 PE8, 85 PD13, 86 PE7, 87 PD12, 88 GND, 89 PD11, 90 PE10, 91 PE2, 92 PE12, 93 GND, 94 PE14, 95 PA0, 96 PE15, 97 PB0, 98 PB10, 99 PE0, 100 PB11